# EAGLE library part MAX4374-10UMAX (library space-concordia-power)
MAX4373 Low power, High side, Rsense current comparator active high, latchable output 10uMAX package
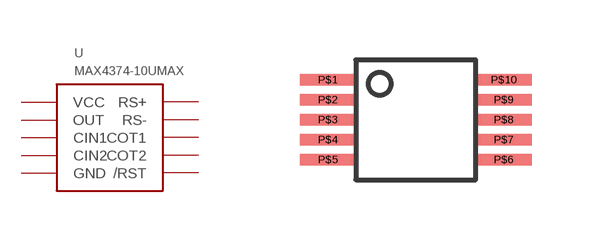
[diagram p11: symbol with the pads of 10UMAX; footprint 10UMAX]

Designator prefix -

## MAX4374-10UMAX  [10UMAX]
P$1  VCC
P$2  OUT
P$3  CIN1
P$4  CIN2
P$5  GND
P$6  /RST
P$7  COT2
P$8  COT1
P$9  RS-
P$10  RS+

## Footprint 10UMAX (pad centres in mm)
MAXIM 10uMAX 10pin, 3mm x 3mm, SMD
smd 1.4 x 0.28: P$1 -2.2,1; P$2 -2.2,0.5; P$3 -2.2,0; P$4 -2.2,-0.5; P$5 -2.2,-1; P$6 2.2,-1; P$7 2.2,-0.5; P$8 2.2,0; P$9 2.2,0.5; P$10 2.2,1